# Altium footprint library 67996-408HLF.PcbLib: 1 footprints
Each footprint in its own frame and in the unit in brackets; x right, y up, seen from the top. Pads: shape width x height; smd on the part's side, far side on the other; paste and mask are expansions set on the pad; w line width, h text height; cw(c..) or ccw(c..) is an arc to the next point about the centre after c.
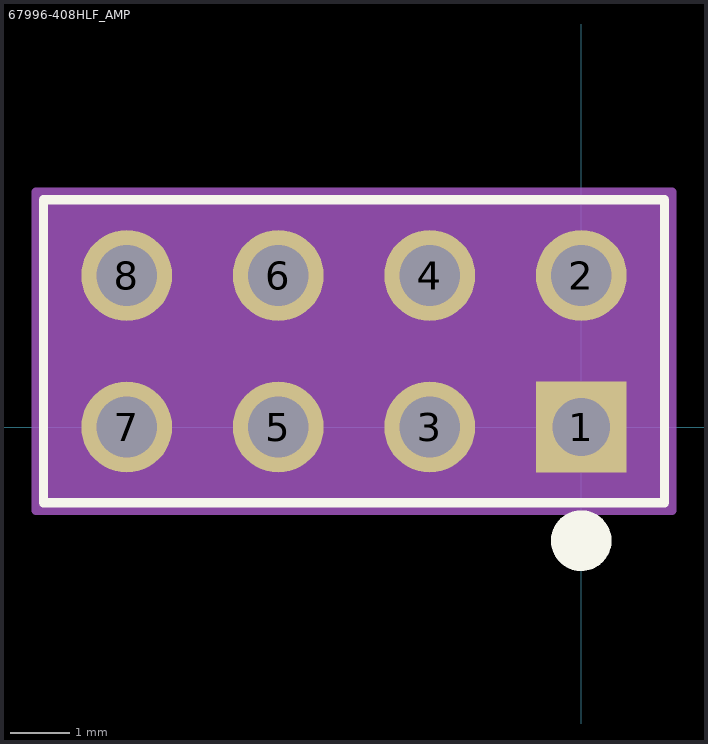
[diagram p0: the footprint, top view; thin cyan lines are the x and y axes]

## 67996-408HLF_AMP [mil]
pads (8):
  rect 60x60 hole 38 mask+0: 1(0,0)
  round 60 hole 40 mask+0: 2(0,100) 3(-100,0) 4(-100,100) 5(-200,0) 6(-200,100) 7(-300,0) 8(-300,100)
Top Overlay:
  circle w20: c0,-75 r10
  lines w6: -355,-50 -355,150 55,150 55,-50 -355,-50
Mechanical 5:
  region: 57.5,-52.5 -357.5,-52.5 -357.5,152.5 57.5,152.5
Mechanical 13:
  circle w0: c0,-30 r10
  lines w1: -350,-45 -350,145 50,145 50,-45 -350,-45
Mechanical 15:
  region: 60,155 -360,155 -360,-55 60,-55
  lines w6: -360,-55 60,-55 60,155 -360,155 -360,-55
3D body "67996-408HLF_AMP.step": height 350, standoff -200, extent -350,-50 50,150